# Altium schematic symbol library SchematicLibrary.SchLib: 3 symbols
Pins are listed as number, name and electrical type; pins without a type are passive.

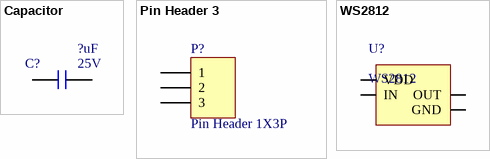
[diagram p0: symbols Capacitor to WS2812]

## Capacitor
designator C?, comment Rating: 25V  (hidden comment: ?uF)
Capacitor; Manufacturer Name: Farnell; Tolerance: +-5%; Diëlectricum: X7R; Unit Price (€): 0.1; Value: ?uF
footprint EM-0805-C T1,25_SMD (Chip Capacitor, 2-Leads, Body 2,00x1,25mm, IPC Medium Density)
pins: 1, 2

## Pin Header 3
designator P?, comment Pin Header 1X3P
Header 3-Pin; Type: Pin Header 1x3P; Value: Pin Header 1x3P; Unit Price (€): ?
footprint CON Header 1X3 (Header - MC)
pins: 1, 2, 3

## WS2812
designator U?
footprint WS2812B
pins: 1 VDD, 2 OUT, 3 GND, 4 IN